# EAGLE library part BBB (library beaglebone)
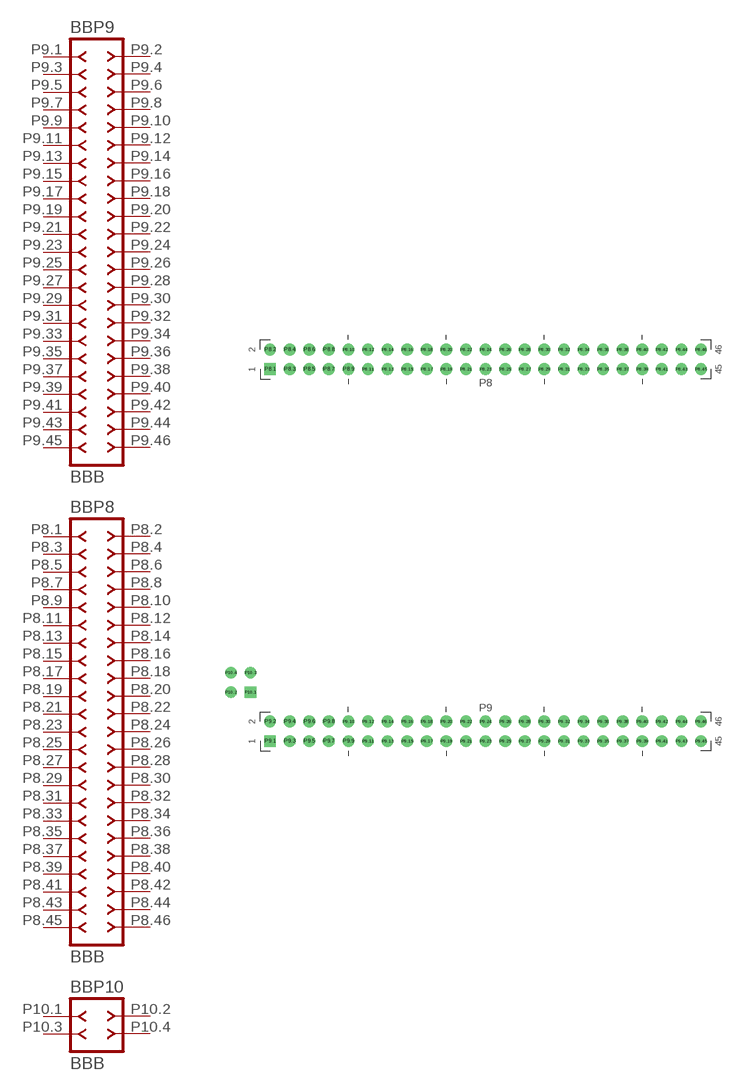
[diagram p0: symbol with the pads of BBB; footprint BBB]

Designator prefix BB; gates P9=PH-46 P8=PH-46 P10=PH-4

## BBB  [BBB]
P8.1  P8:1  pas
P8.2  P8:2  pas
P8.3  P8:3  pas
P8.4  P8:4  pas
P8.5  P8:5  pas
P8.6  P8:6  pas
P8.7  P8:7  pas
P8.8  P8:8  pas
P8.9  P8:9  pas
P8.10  P8:10  pas
P8.11  P8:11  pas
P8.12  P8:12  pas
P8.13  P8:13  pas
P8.14  P8:14  pas
P8.15  P8:15  pas
P8.16  P8:16  pas
P8.17  P8:17  pas
P8.18  P8:18  pas
P8.19  P8:19  pas
P8.20  P8:20  pas
P8.21  P8:21  pas
P8.22  P8:22  pas
P8.23  P8:23  pas
P8.24  P8:24  pas
P8.25  P8:25  pas
P8.26  P8:26  pas
P8.27  P8:27  pas
P8.28  P8:28  pas
P8.29  P8:29  pas
P8.30  P8:30  pas
P8.31  P8:31  pas
P8.32  P8:32  pas
P8.33  P8:33  pas
P8.34  P8:34  pas
P8.35  P8:35  pas
P8.36  P8:36  pas
P8.37  P8:37  pas
P8.38  P8:38  pas
P8.39  P8:39  pas
P8.40  P8:40  pas
P8.41  P8:41  pas
P8.42  P8:42  pas
P8.43  P8:43  pas
P8.44  P8:44  pas
P8.45  P8:45  pas
P8.46  P8:46  pas
P9.1  P9:1  pas
P9.2  P9:2  pas
P9.3  P9:3  pas
P9.4  P9:4  pas
P9.5  P9:5  pas
P9.6  P9:6  pas
P9.7  P9:7  pas
P9.8  P9:8  pas
P9.9  P9:9  pas
P9.10  P9:10  pas
P9.11  P9:11  pas
P9.12  P9:12  pas
P9.13  P9:13  pas
P9.14  P9:14  pas
P9.15  P9:15  pas
P9.16  P9:16  pas
P9.17  P9:17  pas
P9.18  P9:18  pas
P9.19  P9:19  pas
P9.20  P9:20  pas
P9.21  P9:21  pas
P9.22  P9:22  pas
P9.23  P9:23  pas
P9.24  P9:24  pas
P9.25  P9:25  pas
P9.26  P9:26  pas
P9.27  P9:27  pas
P9.28  P9:28  pas
P9.29  P9:29  pas
P9.30  P9:30  pas
P9.31  P9:31  pas
P9.32  P9:32  pas
P9.33  P9:33  pas
P9.34  P9:34  pas
P9.35  P9:35  pas
P9.36  P9:36  pas
P9.37  P9:37  pas
P9.38  P9:38  pas
P9.39  P9:39  pas
P9.40  P9:40  pas
P9.41  P9:41  pas
P9.42  P9:42  pas
P9.43  P9:43  pas
P9.44  P9:44  pas
P9.45  P9:45  pas
P9.46  P9:46  pas
P10.1  P10:1  pas
P10.2  P10:2  pas
P10.3  P10:3  pas
P10.4  P10:4  pas

## Footprint BBB (pad centres in mm)
drill 1.016 square: P8.1 -27.94,46.99; P9.1 -27.94,-1.27; P10.1 -30.48,5.08
drill 1.016: P8.2 -27.94,49.53; P8.3 -25.4,46.99; P8.4 -25.4,49.53; P8.5 -22.86,46.99; P8.6 -22.86,49.53; P8.7 -20.32,46.99; P8.8 -20.32,49.53; P8.9 -17.78,46.99; P8.10 -17.78,49.53; P8.11 -15.24,46.99; P8.12 -15.24,49.53; P8.13 -12.7,46.99; P8.14 -12.7,49.53; P8.15 -10.16,46.99; P8.16 -10.16,49.53; P8.17 -7.62,46.99; P8.18 -7.62,49.53; P8.19 -5.08,46.99; P8.20 -5.08,49.53; P8.21 -2.54,46.99; P8.22 -2.54,49.53; P8.23 0,46.99; P8.24 0,49.53; P8.25 2.54,46.99; P8.26 2.54,49.53; P8.27 5.08,46.99; P8.28 5.08,49.53; P8.29 7.62,46.99; P8.30 7.62,49.53; P8.31 10.16,46.99; P8.32 10.16,49.53; P8.33 12.7,46.99; P8.34 12.7,49.53; P8.35 15.24,46.99; P8.36 15.24,49.53; P8.37 17.78,46.99; P8.38 17.78,49.53; P8.39 20.32,46.99; P8.40 20.32,49.53; P8.41 22.86,46.99; P8.42 22.86,49.53; P8.43 25.4,46.99; P8.44 25.4,49.53; P8.45 27.94,46.99; P8.46 27.94,49.53; P9.2 -27.94,1.27; P9.3 -25.4,-1.27; P9.4 -25.4,1.27; P9.5 -22.86,-1.27; P9.6 -22.86,1.27; P9.7 -20.32,-1.27; P9.8 -20.32,1.27; P9.9 -17.78,-1.27; P9.10 -17.78,1.27; P9.11 -15.24,-1.27; P9.12 -15.24,1.27; P9.13 -12.7,-1.27; P9.14 -12.7,1.27; P9.15 -10.16,-1.27; P9.16 -10.16,1.27; P9.17 -7.62,-1.27; P9.18 -7.62,1.27; P9.19 -5.08,-1.27; P9.20 -5.08,1.27; P9.21 -2.54,-1.27; P9.22 -2.54,1.27; P9.23 0,-1.27; P9.24 0,1.27; P9.25 2.54,-1.27; P9.26 2.54,1.27; P9.27 5.08,-1.27; P9.28 5.08,1.27; P9.29 7.62,-1.27; P9.30 7.62,1.27; P9.31 10.16,-1.27; P9.32 10.16,1.27; P9.33 12.7,-1.27; P9.34 12.7,1.27; P9.35 15.24,-1.27; P9.36 15.24,1.27; P9.37 17.78,-1.27; P9.38 17.78,1.27; P9.39 20.32,-1.27; P9.40 20.32,1.27; P9.41 22.86,-1.27; P9.42 22.86,1.27; P9.43 25.4,-1.27; P9.44 25.4,1.27; P9.45 27.94,-1.27; P9.46 27.94,1.27; P10.2 -33.02,5.08; P10.3 -30.48,7.62; P10.4 -33.02,7.62